# Altium schematic symbol library lite-on.SchLib: 2 symbols
Pins are listed as number, name and electrical type; pins without a type are passive.

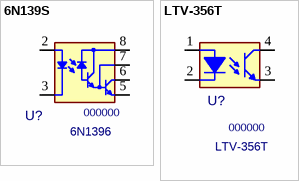
[diagram p0: symbols 6N139S to LTV-356T]

## 6N139S
designator U?, comment 000000  value 6N1396
SMD Photocoupler Darlington; MFG: LITE-ON; PN: 000000; Package: DIP8-SMD; ExtraInfo: *
footprint DIP8-SMD (DIP, 8-Leads, Body 9.7x6.5mm (max), Pitch 2.54mm, IPC Medium Density)
pins: 2 A "Anode", 3 K "Cathode", 5 GND "Emitter", 6 VO "Collector", 7 VB "Collector", 8 VCC "Collector"

## LTV-356T
designator U?, comment 000000  value LTV-356T
SMD Photocoupler; MFG: LITE-ON; PN: 000000; Package: 4-SMD; ExtraInfo: *
footprint 4-SMD (SOP, 4-Leads, Body 3.9x4.6mm (max), Pitch 2.54mm, IPC Medium Density)
pins: 1 A "Anode", 2 K "Cathode", 3 E "Emitter", 4 C "Collector"